# Altium schematic symbol library MCU.SchLib: 1 symbol
Pins are listed as number, name and electrical type; pins without a type are passive.

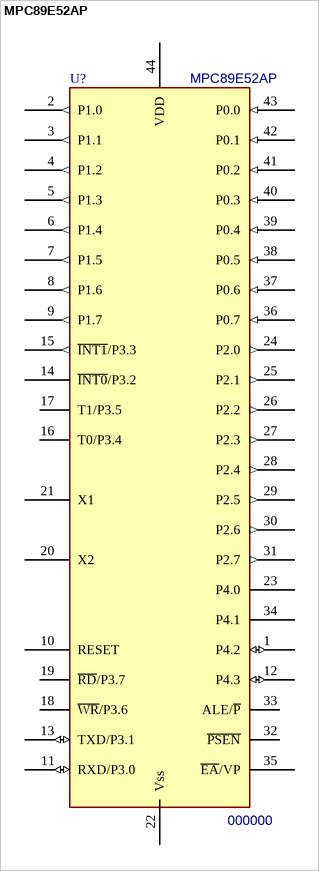
[diagram p0: symbol MPC89E52AP]

## MPC89E52AP
designator U?, comment 000000  value MPC89E52AP
Package: PLCC44; ExtraInfo: *; PN: 000000
footprint PLCC-44 (PLCC, 44-Leads, Body 17.7x17.7mm (max), Pitch 1.270mm, IPC Medium Density)
footprint PLCC_socket-44 (PLCC, 44-Leads, Body 17.7x17.7mm (max), Pitch 1.270mm, IPC Medium Density)
footprint PLCC_socket-44 (PLCC, 44-Leads, Body 17.7x17.7mm (max), Pitch 1.270mm, IPC Medium Density)
pins: 1 P4.2 (io), 2 P1.0 (out), 3 P1.1 (out), 4 P1.2 (out), 5 P1.3 (out), 6 P1.4 (out), 7 P1.5 (out), 8 P1.6 (out), 9 P1.7 (out), 10 RESET, 11 RXD/P3.0 (io), 12 P4.3 (io), 13 TXD/P3.1 (io), 14 ~{INT0}/P3.2, 15 ~{INT1}/P3.3 (out), 16 T0/P3.4, 17 T1/P3.5, 18 ~{WR}/P3.6, 19 ~{RD}/P3.7, 20 X2, 21 X1, 22 Vss (power), 23 P4.0, 24 P2.0 (out), 25 P2.1 (out), 26 P2.2 (out), 27 P2.3 (out), 28 P2.4 (out), 29 P2.5 (out), 30 P2.6 (out), 31 P2.7 (out), 32 ~{PSEN}, 33 ALE/~{P}, 34 P4.1, 35 ~{EA}/VP, 36 P0.7 (in), 37 P0.6 (in), 38 P0.5 (in), 39 P0.4 (in), 40 P0.3 (in), 41 P0.2 (in), 42 P0.1 (in), 43 P0.0 (in), 44 VDD (power)